# EAGLE library part M20050-1 (library M20050-1)
Antennas GPS/GNSS RADIONOVA RF Module MTK chipset Source: Datasheet <https://www.mouser.com/datasheet/2/23/antenova_M20050-1-1279284.pdf>
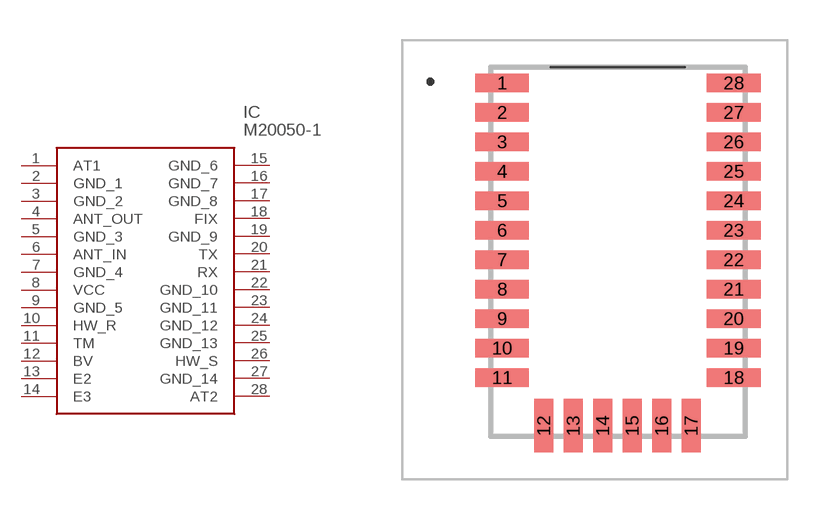
[diagram p0: symbol with the pads of M200501; footprint M200501]

Designator prefix IC

## M20050-1 (Arrow_Part_Number: M20050-1; Arrow_Price-Stock: https://www.arrow.com/en/products/m20050-1/antenova?region=nac; Description: Antennas GPS/GNSS RADIONOVA RF Module MTK chipset; Height: 2mm; Manufacturer_Name: Antenova; Manufacturer_Part_Number: M20050-1; Mouser_Part_Number: 237-M20050-1; Mouser_Price-Stock: https://www.mouser.co.uk/ProductDetail/Antenova/M20050-1?qs=j%252B1pi9TdxUa935Cnq0dcJA%3D%3D)  [M200501]
1  AT1
2  GND_1
3  GND_2
4  ANT_OUT
5  GND_3
6  ANT_IN
7  GND_4
8  VCC
9  GND_5
10  HW_R
11  TM
12  BV
13  E2
14  E3
15  GND_6
16  GND_7
17  GND_8
18  FIX
19  GND_9
20  TX
21  RX
22  GND_10
23  GND_11
24  GND_12
25  GND_13
26  HW_S
27  GND_14
28  AT2

## Footprint M200501 (pad centres in mm)
M20050-1-1
smd 2 x 0.7: 1 -4.3,6.3; 2 -4.3,5.2; 3 -4.3,4.1; 4 -4.3,3; 5 -4.3,1.9; 6 -4.3,0.8; 7 -4.3,-0.3; 8 -4.3,-1.4; 9 -4.3,-2.5; 10 -4.3,-3.6; 11 -4.3,-4.7; 18 4.34,-4.7; 19 4.34,-3.6; 20 4.34,-2.5; 21 4.34,-1.4; 22 4.34,-0.3; 23 4.34,0.8; 24 4.34,1.9; 25 4.34,3; 26 4.34,4.1; 27 4.34,5.2; 28 4.34,6.3
smd 0.7 x 2: 12 -2.75,-6.5; 13 -1.65,-6.5; 14 -0.55,-6.5; 15 0.55,-6.5; 16 1.65,-6.5; 17 2.75,-6.5